# Altium integrated library TMS-101-60-S-S.IntLib: 1 symbol
Pins are listed as number, name and electrical type; pins without a type are passive.

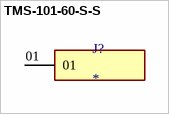
[diagram p0: symbol TMS-101-60-S-S]

## TMS-101-60-S-S
designator J?
MP: TMS-101-60-S-S; Package: None; Value: *; Price: None; Availability: Unavailable
footprint SAMTEC_TMS-101-60-S-S
pins: 01